# EAGLE library part RTX4100 (library isystems)
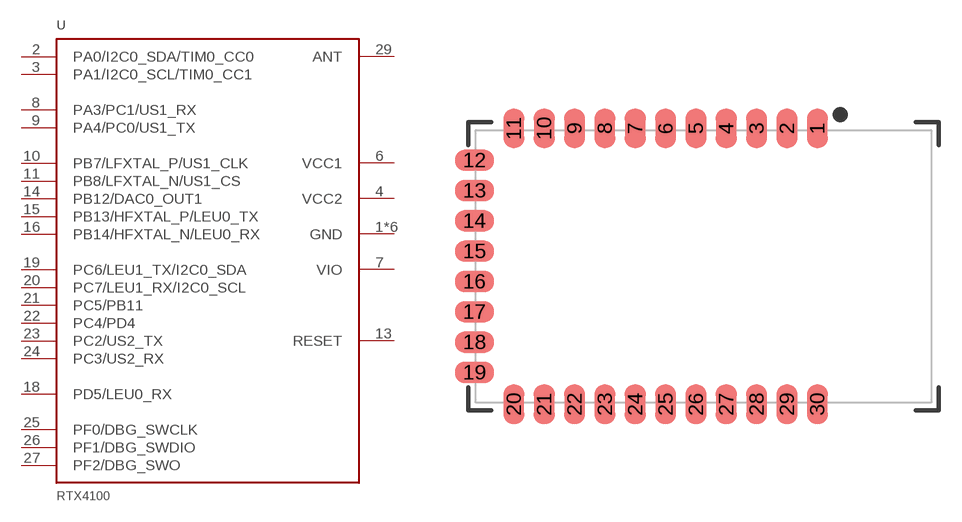
[diagram p9: symbol with the pads of RTX4100; footprint RTX4100]

Designator prefix U

## RTX4100  [RTX4100]
1  GND  pwr
2  PA0/I2C0_SDA/TIM0_CC0
3  PA1/I2C0_SCL/TIM0_CC1
4  VCC2  pwr
5  GND  pwr
6  VCC1  pwr
7  VIO  out
8  PA3/PC1/US1_RX
9  PA4/PC0/US1_TX
10  PB7/LFXTAL_P/US1_CLK
11  PB8/LFXTAL_N/US1_CS
12  GND  pwr
13  RESET  in
14  PB12/DAC0_OUT1
15  PB13/HFXTAL_P/LEU0_TX
16  PB14/HFXTAL_N/LEU0_RX
17  GND  pwr
18  PD5/LEU0_RX
19  PC6/LEU1_TX/I2C0_SDA
20  PC7/LEU1_RX/I2C0_SCL
21  PC5/PB11
22  PC4/PD4
23  PC2/US2_TX
24  PC3/US2_RX
25  PF0/DBG_SWCLK
26  PF1/DBG_SWDIO
27  PF2/DBG_SWO
28  GND  pwr
29  ANT
30  GND  pwr

## Footprint RTX4100 (pad centres in mm)
smd 1.4 x 2.6: 1 7.5,9.1; 2 5.5,9.1; 3 3.5,9.1; 4 1.5,9.1; 5 -0.5,9.1; 6 -2.5,9.1; 7 -4.5,9.1; 8 -6.5,9.1; 9 -8.5,9.1; 10 -10.5,9.1; 11 -12.5,9.1; 20 -12.5,-9.1; 21 -10.5,-9.1; 22 -8.5,-9.1; 23 -6.5,-9.1; 24 -4.5,-9.1; 25 -2.5,-9.1; 26 -0.5,-9.1; 27 1.5,-9.1; 28 3.5,-9.1; 29 5.5,-9.1; 30 7.5,-9.1
smd 2.6 x 1.4: 12 -15.1,7; 13 -15.1,5; 14 -15.1,3; 15 -15.1,1; 16 -15.1,-1; 17 -15.1,-3; 18 -15.1,-5; 19 -15.1,-7